# Altium footprint library PcbLib.PcbLib: 28 footprints (part 2 of 2)
Each footprint in its own frame and in the unit in brackets; x right, y up, seen from the top. Pads: shape width x height; smd on the part's side, far side on the other; paste and mask are expansions set on the pad; w line width, h text height; cw(c..) or ccw(c..) is an arc to the next point about the centre after c.
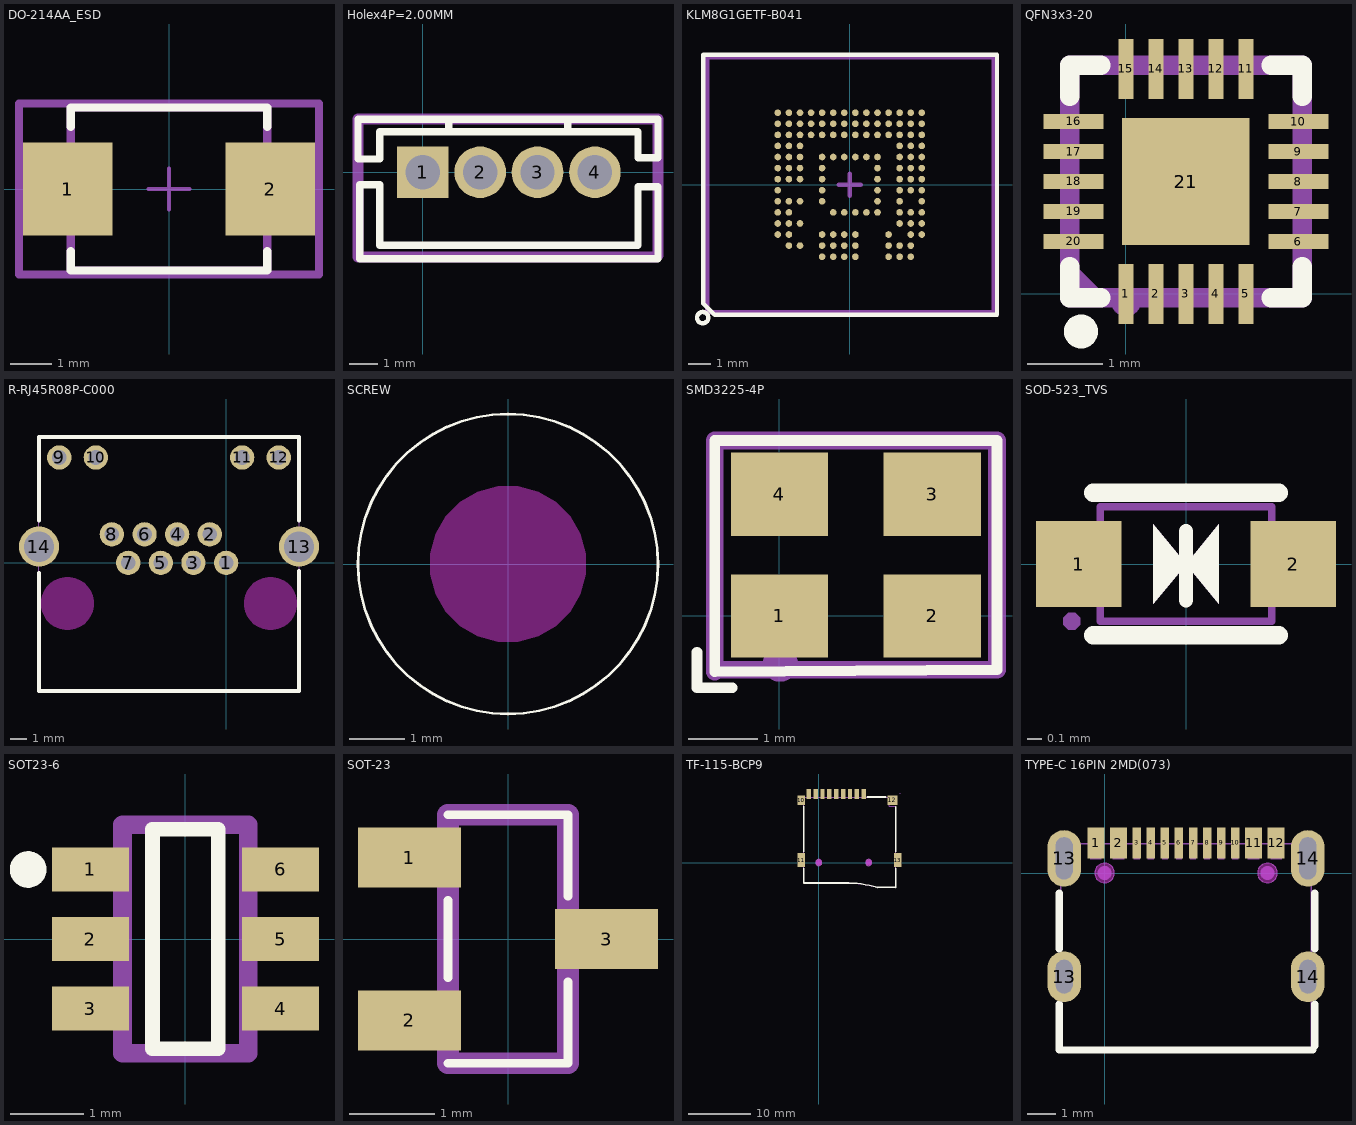
[diagram p1: the footprints below, top view; thin cyan lines are the x and y axes]

## DO-214AA_ESD [mm]
pads (2):
  rect 2.16x2.26 smd paste+0 mask+0: 1(-2.45,0) 2(2.45,0)
Top Overlay:
  lines w0.2: -2.375,-1.505 -2.375,-1.97 2.375,-1.97 2.375,-1.505 ; -2.375,1.505 -2.375,1.97 2.375,1.97 2.375,1.505
Top Assembly:
  lines w0.2: -3.63,-2.07 -3.63,2.07 3.63,2.07 3.63,-2.07 -3.63,-2.07
Top 3D Body:
  lines w0.2: -2.375,-1.97 -2.375,1.97 2.375,1.97 2.375,-1.97 -2.375,-1.97
Top Courtyard:
  lines w0.2: -3.63,-2.07 3.63,-2.07 3.63,2.07 -3.63,2.07 -3.63,-2.07
Top Component Center:
  lines w0.1: -0.5,0 0.5,0 ; 0,-0.5 0,0.5
3D body "do-214aa.step": height 2.44, standoff 0, extent -2.7,-1.81 2.7,1.81

## Holex4P=2.00MM [mm]
pads (4):
  rect 1.8x1.8 hole 1.2: 1(0,0)
  round 1.8 hole 1.2: 2(2,0) 3(4,0) 4(6,0)
Top Overlay:
  lines w0.254: -2.26,1.85 -2.26,0.46 -1.5,0.46 -1.5,1.41 7.5,1.41 7.5,0.508 8.2,0.508 8.2,1.85 -2.26,1.85 ; -2.2,-0.43 -2.2,-3.02 8.2,-3.02 8.2,-0.508 7.5,-0.508 7.5,-2.55 -1.5,-2.55 -1.5,-0.438 -2.192,-0.438 ; 0.909,1.41 0.909,1.85 ; 5.052,1.41 5.052,1.85
Top Courtyard:
  lines w0.381: -2.26,1.85 8.2,1.85 8.2,-2.901 8.141,-2.961 -2.26,-2.961 -2.26,1.85

## KLM8G1GETF-B041 [mm]
pads (130):
  round 0.3 smd: A3(-3.25,-2.25) A4(-3.25,-1.75) A5(-3.25,-1.25) A6(-3.25,-0.75) A7(-3.25,-0.25) A8(-3.25,0.25) A9(-3.25,0.75) A10(-3.25,1.25) A11(-3.25,1.75) A12(-3.25,2.25) A13(-3.25,2.75) A14(-3.25,3.25) B2(-2.75,-2.75) B3(-2.75,-2.25) B4(-2.75,-1.75) B5(-2.75,-1.25) B6(-2.75,-0.75) B8(-2.75,0.25) B9(-2.75,0.75) B10(-2.75,1.25) B11(-2.75,1.75) B12(-2.75,2.25) B13(-2.75,2.75) B14(-2.75,3.25) C2(-2.25,-2.75) C4(-2.25,-1.75) C6(-2.25,-0.75) C8(-2.25,0.25) C9(-2.25,0.75) C10(-2.25,1.25) C11(-2.25,1.75) C12(-2.25,2.25) C13(-2.25,2.75) C14(-2.25,3.25) D12(-1.75,2.25) D13(-1.75,2.75) D14(-1.75,3.25) E1(-1.25,-3.25) E2(-1.25,-2.75) E3(-1.25,-2.25) E6(-1.25,-0.75) E7(-1.25,-0.25) E8(-1.25,0.25) E9(-1.25,0.75) E10(-1.25,1.25) E12(-1.25,2.25) E13(-1.25,2.75) E14(-1.25,3.25) F1(-0.75,-3.25) F2(-0.75,-2.75) F3(-0.75,-2.25) F5(-0.75,-1.25) F10(-0.75,1.25) F12(-0.75,2.25) F13(-0.75,2.75) F14(-0.75,3.25) G1(-0.25,-3.25) G2(-0.25,-2.75) G3(-0.25,-2.25) G5(-0.25,-1.25) G10(-0.25,1.25) G12(-0.25,2.25) G13(-0.25,2.75) G14(-0.25,3.25) H1(0.25,-3.25) H2(0.25,-2.75) H3(0.25,-2.25) H5(0.25,-1.25) H10(0.25,1.25) H12(0.25,2.25) H13(0.25,2.75) H14(0.25,3.25) J5(0.75,-1.25) J10(0.75,1.25) J12(0.75,2.25) J13(0.75,2.75) J14(0.75,3.25) K5(1.25,-1.25) K6(1.25,-0.75) K7(1.25,-0.25) K8(1.25,0.25) K9(1.25,0.75) K10(1.25,1.25) K12(1.25,2.25) K13(1.25,2.75) K14(1.25,3.25) L1(1.75,-3.25) L2(1.75,-2.75) L3(1.75,-2.25) L12(1.75,2.25) L13(1.75,2.75) L14(1.75,3.25) M1(2.25,-3.25) M2(2.25,-2.75) M4(2.25,-1.75) M5(2.25,-1.25) M6(2.25,-0.75) M7(2.25,-0.25) M8(2.25,0.25) M9(2.25,0.75) M10(2.25,1.25) M11(2.25,1.75) M12(2.25,2.25) M13(2.25,2.75) M14(2.25,3.25) N1(2.75,-3.25) N2(2.75,-2.75) N3(2.75,-2.25) N4(2.75,-1.75) N5(2.75,-1.25) N7(2.75,-0.25) N8(2.75,0.25) N9(2.75,0.75) N10(2.75,1.25) N11(2.75,1.75) N12(2.75,2.25) N13(2.75,2.75) N14(2.75,3.25) P3(3.25,-2.25) P4(3.25,-1.75) P5(3.25,-1.25) P6(3.25,-0.75) P7(3.25,-0.25) P8(3.25,0.25) P9(3.25,0.75) P10(3.25,1.25) P11(3.25,1.75) P12(3.25,2.25) P13(3.25,2.75) P14(3.25,3.25)
Top Overlay:
  circle w0.2: c-6.642,-6 r0.256
  lines w0.2: -6.614,-5.364 -6.614,5.867 6.644,5.867 6.644,-5.873 -6.105,-5.873 -6.614,-5.364
Mechanical 116:
  lines w0.2: -0.5,0 0,0 ; 0,-0.5 0,0 ; 0,0.5 0,0 ; 0.5,0 0,0 ; -6.44,-5.75 6.5,-5.75 6.5,5.75 -6.44,5.75 -6.44,-5.75

## QFN3x3-20 [mm]
pads (21):
  rect 0.2x0.8 smd: 1(0,0) 2(0.4,0) 3(0.8,0) 4(1.2,0) 5(1.6,0) 11(1.6,3) 12(1.2,3) 13(0.8,3) 14(0.4,3) 15(0,3)
  rect 0.8x0.2 smd: 6(2.3,0.7) 7(2.3,1.1) 8(2.3,1.5) 9(2.3,1.9) 10(2.3,2.3) 16(-0.7,2.3) 17(-0.7,1.9) 18(-0.7,1.5) 19(-0.7,1.1) 20(-0.7,0.7)
  rect 1.7x1.7 smd: 21(0.8,1.5)
Top Overlay:
  circle w0.254: c-0.6,-0.5 r0.1
  lines w0.254: -0.75,0.369 -0.75,-0.05 -0.331,-0.05 ; -0.75,2.631 -0.75,3.05 -0.331,3.05 ; 1.931,-0.05 2.35,-0.05 2.35,0.369 ; 1.931,3.05 2.35,3.05 2.35,2.631
Mechanical 15:
  circle w0.2: c0,-0.1 r0.1
  region: -0.8,-0.1 -0.8,0.5 -0.2,-0.1
  lines w0.254: -0.75,-0.05 2.35,-0.05 2.35,3.05 -0.75,3.05 -0.75,-0.05

## R-RJ45R08P-C000 [mil]
pads (14):
  round 60 hole 36 mask+2: 1(0,0) 2(-40.16,70.08) 3(-80.31,0) 4(-120.47,70.08) 5(-160.63,0) 6(-200.79,70.08) 7(-240.94,0) 8(-281.1,70.08) 9(-410.63,259.45) 10(-320.47,259.45) 11(39.37,259.45) 12(129.53,259.45)
  round 98.42 hole 74.8 mask+2: 13(179.53,40.16) 14(-460.63,40.16)
Top Overlay:
  lines w10: -460.63,104.72 -460.63,309.72 179.53,309.72 179.53,104.72 ; -460.55,-25.28 -460.55,-315.28 179.45,-315.28 179.45,-20.28
Keep-Out Layer:
  board cut-out: 174.56,-100.02 174.56,-93.61 172.06,-81.04 167.15,-69.19 160.03,-58.53 150.97,-49.47 140.31,-42.35 128.46,-37.44 115.89,-34.94 103.07,-34.94 90.5,-37.44 78.66,-42.35 68,-49.47 58.93,-58.53 51.81,-69.19 46.91,-81.04 44.41,-93.61 44.41,-100.02 44.41,-106.43 46.91,-119 51.81,-130.84 58.93,-141.5 68,-150.57 78.66,-157.69 90.5,-162.59 103.07,-165.09 115.89,-165.09 128.46,-162.59 140.31,-157.69 150.97,-150.57 160.03,-141.5 167.15,-130.84 172.06,-119 174.56,-106.43
  board cut-out: -325.53,-99.95 -325.53,-93.54 -328.03,-80.97 -332.94,-69.12 -340.06,-58.46 -349.12,-49.4 -359.78,-42.28 -371.63,-37.37 -384.2,-34.87 -397.02,-34.87 -409.59,-37.37 -421.43,-42.28 -432.09,-49.4 -441.15,-58.46 -448.28,-69.12 -453.18,-80.97 -455.68,-93.54 -455.68,-99.95 -455.68,-106.36 -453.18,-118.93 -448.28,-130.77 -441.15,-141.43 -432.09,-150.5 -421.43,-157.62 -409.59,-162.52 -397.02,-165.02 -384.2,-165.02 -371.63,-162.52 -359.78,-157.62 -349.12,-150.5 -340.06,-141.43 -332.94,-130.77 -328.03,-118.93 -325.53,-106.36
Mechanical 15:
  region: -290.94,79.92 -271.26,79.92 -271.26,60.24 -290.94,60.24
  region: -250.78,9.84 -231.1,9.84 -231.1,-9.84 -250.78,-9.84
  region: -210.63,79.92 -190.95,79.92 -190.95,60.24 -210.63,60.24
  region: -170.47,9.84 -150.79,9.84 -150.79,-9.84 -170.47,-9.84
  region: -130.31,79.92 -110.63,79.92 -110.63,60.24 -130.31,60.24
  region: -90.15,9.84 -70.47,9.84 -70.47,-9.84 -90.15,-9.84
  region: -50,79.92 -30.32,79.92 -30.32,60.24 -50,60.24
  region: -9.84,9.84 9.84,9.84 9.84,-9.84 -9.84,-9.84
  region: -460.63,10.63 -460.63,69.69 -448.82,69.69 -448.82,10.63
  region: 167.72,10.63 167.72,69.69 179.53,69.69 179.53,10.63
  region: 119.49,269.49 139.57,269.49 139.57,249.41 119.49,249.41
  region: 29.33,269.49 49.41,269.49 49.41,249.41 29.33,249.41
  region: -330.51,269.49 -310.43,269.49 -310.43,249.41 -330.51,249.41
  region: -420.67,269.49 -400.59,269.49 -400.59,249.41 -420.67,249.41
  lines w2: -460.63,-312.6 179.53,-312.6 179.53,307.48 -460.63,307.48 -460.63,-312.6

## SCREW [mm]
Top Overlay:
  circle w0.05: c0,0 r2.7
Bottom Overlay:
  circle w0.05: c0,0 r2.7
Keep-Out Layer:
  board cut-out: 1.4,0 1.4,0.184 1.305,0.54 1.12,0.86 0.86,1.12 0.54,1.305 0.184,1.4 -0.184,1.4 -0.54,1.305 -0.86,1.12 -1.12,0.86 -1.305,0.54 -1.4,0.184 -1.4,0 -1.4,-0.184 -1.305,-0.54 -1.12,-0.86 -0.86,-1.12 -0.54,-1.305 -0.184,-1.4 0.184,-1.4 0.54,-1.305 0.86,-1.12 1.12,-0.86 1.305,-0.54 1.4,-0.184
Multi-Layer:
  pour cut-out: 2.6,0 2.6,0.256 2.5,0.758 2.304,1.232 2.02,1.657 1.657,2.02 1.232,2.304 0.758,2.5 0.256,2.6 -0.256,2.6 -0.758,2.5 -1.232,2.304 -1.657,2.02 -2.02,1.657 -2.304,1.232 -2.5,0.758 -2.6,0.256 -2.6,0 -2.6,-0.256 -2.5,-0.758 -2.304,-1.232 -2.02,-1.657 -1.657,-2.02 -1.232,-2.304 -0.758,-2.5 -0.256,-2.6 0.256,-2.6 0.758,-2.5 1.232,-2.304 1.657,-2.02 2.02,-1.657 2.304,-1.232 2.5,-0.758 2.6,-0.256

## SMD3225-4P [mm]
pads (4):
  rect 1.4x1.2 smd: 1(0,0) 2(2.2,0) 3(2.2,1.75) 4(0,1.75)
Top Overlay:
  lines w0.152: -1.186,-0.522 -1.186,-1.03 -0.678,-1.03 ; -0.929,-0.804 -0.929,2.526 3.132,2.526 3.132,0.875 3.132,-0.776 -0.929,-0.804
Mechanical 15:
  circle w0.254: c0.012,-0.692 r0.127
  region: -0.386,0.447 -0.35,0.447 -0.35,-0.129 -0.386,-0.129
  region: -0.422,0.447 -0.386,0.447 -0.386,-0.129 -0.422,-0.129
  region: -0.458,0.447 -0.422,0.447 -0.422,-0.129 -0.458,-0.129
  region: -0.494,0.411 -0.458,0.411 -0.458,-0.129 -0.494,-0.129
  region: -0.53,0.411 -0.494,0.411 -0.494,0.303 -0.53,0.303
  region: -0.566,0.375 -0.53,0.375 -0.53,0.267 -0.566,0.267
  region: -0.602,0.339 -0.566,0.339 -0.566,0.267 -0.602,0.267
  region: -0.638,0.339 -0.602,0.339 -0.602,0.267 -0.638,0.267
  lines w0.254: 3.132,2.526 -0.929,2.526 -0.929,-0.804 -0.902,-0.776 3.132,-0.776 3.132,2.526 ; 3.132,2.526 3.132,2.526

## SOD-523_TVS [mm] "SOD, 2-Leads, Body 1.2x0.8mm"
height 0.7
pads (2):
  rect 0.6x0.6 smd mask+0.051: 1(-0.75,0) 2(0.75,0)
Top Overlay:
  region: 0,0 -0.229,-0.279 -0.229,0.279
  region: 0,0 0.229,0.279 0.229,-0.279
  lines w0.1: 0,-0.254 0,0.229
  lines w0.13: -0.65,-0.5 0.65,-0.5 ; -0.65,0.5 0.65,0.5
Mechanical 6:
  region: 0.229,0.279 0.229,-0.279 0,0
  region: -0.229,0.279 -0.229,-0.279 0,0
Mechanical 15:
  region: -0.8,0.15 -0.463,0.15 -0.463,-0.15 -0.8,-0.15
  region: 0.8,-0.152 0.463,-0.152 0.463,0.148 0.8,0.148
  region: -0.74,-0.4 -0.74,-0.375 -0.775,-0.34 -0.825,-0.34 -0.86,-0.375 -0.86,-0.4 -0.86,-0.425 -0.825,-0.46 -0.775,-0.46 -0.74,-0.425
  lines w0.051: -0.6,-0.4 0.6,-0.4 0.6,0.4 -0.6,0.4 -0.6,-0.4

## SOT23-6 [mm]
height 1.45
pads (6):
  rect 1.05x0.6 smd: 1(-1.3,0.95) 2(-1.3,0) 3(-1.3,-0.95) 4(1.3,-0.95) 5(1.3,0) 6(1.3,0.95)
Top Overlay:
  circle w0.25: c-2.15,0.95 r0.125
  lines w0.2: -0.45,-1.5 -0.45,1.5 0.45,1.5 0.45,-1.5 -0.45,-1.5
Top Courtyard:
  lines w0.254: -0.86,-1.56 0.86,-1.56 0.86,1.56 -0.86,1.56 -0.86,-1.56

## SOT-23 [mm]
pads (3):
  rect 1.2x0.7 smd: 1(-1.15,0.95) 2(-1.15,-0.95) 3(1.15,0)
Top Overlay:
  lines w0.1: -0.7,-1.45 0.7,-1.45 0.7,-0.5 ; -0.7,-0.45 -0.7,0.45 ; -0.7,1.45 0.7,1.45 0.7,0.5
Top Courtyard:
  lines w0.254: -0.7,-1.45 -0.7,1.45 0.7,1.45 0.7,-1.45 -0.7,-1.45

## TF-115-BCP9 [mil]
pads (13):
  rect 27.6x63 smd mask+2: 1(283.5,433.1) 2(240.2,433.1) 3(196.9,433.1) 4(153.6,433.1) 5(110.3,433.1) 6(66.9,433.1) 7(23.6,433.1) 8(-19.7,433.1) 9(-63,433.1)
  rect 47.2x59.1 smd mask+2: 10(-110.2,393.7)
  rect 47.2x86.6 smd mask+2: 11(-110.2,15.7) 13(500,15.7)
  rect 63x59.1 smd mask+2: 12(464.6,393.7)
Top Overlay:
  lines w10: -95.7,-36.7 -95.7,-129.1 107.5,-129.1 189.4,-129.1 ; -95.7,68.1 -95.7,355.1 ; 189.38,-129.14 cw(c178.2,-779.96) 368.52,-157.49 487,-157.1 ; 306.4,413.8 424,413.8 ; 486.6,-157.5 487,-157.1 ; 487,-36.7 487,-157.1 ; 487,68.1 487,353.5
Keep-Out Layer:
  board cut-out: 19.7,0 19.7,3.92 16.7,11.16 11.16,16.7 3.92,19.7 -3.92,19.7 -11.16,16.7 -16.7,11.16 -19.7,3.92 -19.7,0 -19.7,-3.92 -16.7,-11.16 -11.16,-16.7 -3.92,-19.7 3.92,-19.7 11.16,-16.7 16.7,-11.16 19.7,-3.92
  board cut-out: 334.7,0 334.7,3.92 331.7,11.16 326.16,16.7 318.92,19.7 311.08,19.7 303.84,16.7 298.3,11.16 295.3,3.92 295.3,0 295.3,-3.92 298.3,-11.16 303.84,-16.7 311.08,-19.7 318.92,-19.7 326.16,-16.7 331.7,-11.16 334.7,-3.92
Mechanical 1:
  circle w0.2: c0,0 r19.7
  circle w0.2: c315,0 r19.7
Mechanical 6:
  circle w15.7: c315,0 r7.9
  circle w15.7: c0,0 r7.9
Mechanical 15:
  region: 515.4,435.8 515.4,436.79 513.99,438.2 512.01,438.2 510.6,436.79 510.6,435.8 510.6,434.81 512.01,433.4 513.99,433.4 515.4,434.81
  region: -68.9,435.8 -57.1,435.8 -57.1,412.2 -68.9,412.2
  region: -25.6,435.8 -13.8,435.8 -13.8,412.2 -25.6,412.2
  region: 17.7,435.8 29.5,435.8 29.5,412.2 17.7,412.2
  region: 61,435.8 72.8,435.8 72.8,412.2 61,412.2
  region: 104.3,435.8 116.2,435.8 116.2,412.2 104.3,412.2
  region: 147.7,435.8 159.5,435.8 159.5,412.2 147.7,412.2
  region: 191,435.8 202.8,435.8 202.8,412.2 191,412.2
  region: 234.3,435.8 246.1,435.8 246.1,412.2 234.3,412.2
  region: 277.6,435.8 289.4,435.8 289.4,412.2 277.6,412.2
  region: -122.8,414.2 -91.3,414.2 -91.3,374.8 -122.8,374.8
  region: 446.5,374.8 446.5,414.2 478,414.2 478,374.8
  region: -124.4,48.4 -92.9,48.4 -92.9,-14.6 -124.4,-14.6
  region: 481.5,47.6 513,47.6 513,-15.4 481.5,-15.4
  lines w2: -95.7,-126.8 -95.7,414.6 -94.9,413.8 476.4,413.8 477.2,413 477.2,376.4 476,375.2 445.3,375.2 445.3,355.1 445.7,354.7 485.5,354.7 486.6,353.5 486.6,-157.5 376.8,-157.1 368.1,-157.1 360.3,-154.3 279.2,-136.2 194.5,-129.1 -93.3,-129.1 -94.5,-128 -95.7,-126.8

## TYPE-C 16PIN 2MD(073) [mm]
pads (16):
  rect 0.6x1.1 smd mask+0.05: 1(-0.31,1.07) 2(0.49,1.07) 11(5.29,1.07) 12(6.09,1.07)
  rect 0.3x1.1 smd mask+0.05: 3(1.14,1.07) 4(1.64,1.07) 5(2.14,1.07) 6(2.64,1.07) 7(3.14,1.07) 8(3.64,1.07) 9(4.14,1.07) 10(4.64,1.07)
  oval 1.2x1.8 hole 0.6 slot 1.2 at 90 deg mask+0.05: 13(-1.435,-3.68) 14(7.215,-3.68)
  oval 1.2x2 hole 0.6 slot 1.5 at 90 deg mask+0.05: 13(-1.435,0.52) 14(7.215,0.52)
Top Overlay:
  lines w0.254: -1.61,-4.661 -1.61,-6.28 7.39,-6.28 ; -1.61,-2.699 -1.61,-0.711 ; 7.462,-6.131 7.462,-4.658 ; 7.462,-2.702 7.462,-0.708
Top Paste:
  drawing of 16 lines, arcs and shapes, not listed
Keep-Out Layer:
  board cut-out: 0.35,0 0.35,0.07 0.297,0.198 0.198,0.297 0.07,0.35 -0.07,0.35 -0.198,0.297 -0.297,0.198 -0.35,0.07 -0.35,0 -0.35,-0.07 -0.297,-0.198 -0.198,-0.297 -0.07,-0.35 0.07,-0.35 0.198,-0.297 0.297,-0.198 0.35,-0.07
  board cut-out: 6.13,0 6.13,0.07 6.077,0.198 5.978,0.297 5.85,0.35 5.71,0.35 5.582,0.297 5.483,0.198 5.43,0.07 5.43,0 5.43,-0.07 5.483,-0.198 5.582,-0.297 5.71,-0.35 5.85,-0.35 5.978,-0.297 6.077,-0.198 6.13,-0.07
Mechanical 1:
  circle w0.005: c0,0 r0.35
  circle w0.005: c5.78,0 r0.35
Mechanical 6:
  circle w0.25: c0,0 r0.125
  circle w0.25: c5.78,0 r0.125
Mechanical 15:
  region: -1.5,1.344 -1.5,1.369 -1.535,1.404 -1.585,1.404 -1.62,1.369 -1.62,1.344 -1.62,1.319 -1.585,1.284 -1.535,1.284 -1.5,1.319
  region: 1.04,1.344 1.24,1.344 1.24,0.494 1.04,0.494
  region: 2.04,1.344 2.24,1.344 2.24,0.494 2.04,0.494
  region: 1.54,1.344 1.74,1.344 1.74,0.494 1.54,0.494
  region: 2.54,1.344 2.74,1.344 2.74,0.494 2.54,0.494
  region: 3.04,1.344 3.24,1.344 3.24,0.494 3.04,0.494
  region: 3.54,1.344 3.74,1.344 3.74,0.494 3.54,0.494
  region: 4.04,1.344 4.24,1.344 4.24,0.494 4.04,0.494
  region: 4.54,1.344 4.74,1.344 4.74,0.494 4.54,0.494
  region: -0.51,1.344 -0.11,1.344 -0.11,0.494 -0.51,0.494
  region: 0.29,1.344 0.69,1.344 0.69,0.494 0.29,0.494
  region: 5.09,1.344 5.49,1.344 5.49,0.494 5.09,0.494
  region: 5.89,1.344 6.29,1.344 6.29,0.494 5.89,0.494
  region: -1.56,1.044 -1.31,1.044 -1.31,-0.056 -1.56,-0.056
  region: 7.09,1.044 7.34,1.044 7.34,-0.056 7.09,-0.056
  region: -1.56,-3.33 -1.31,-3.33 -1.31,-4.03 -1.56,-4.03
  region: 7.09,-3.33 7.34,-3.33 7.34,-4.03 7.09,-4.03
  lines w0.051: -1.56,-6.306 -1.56,1.044 7.34,1.044 7.34,-6.306 -1.56,-6.306